# Altium footprint library mbed-HDK.PCBLIB: 59 footprints (part 3 of 4)
Each footprint in its own frame and in the unit in brackets; x right, y up, seen from the top. Pads: shape width x height; smd on the part's side, far side on the other; paste and mask are expansions set on the pad; w line width, h text height; cw(c..) or ccw(c..) is an arc to the next point about the centre after c.
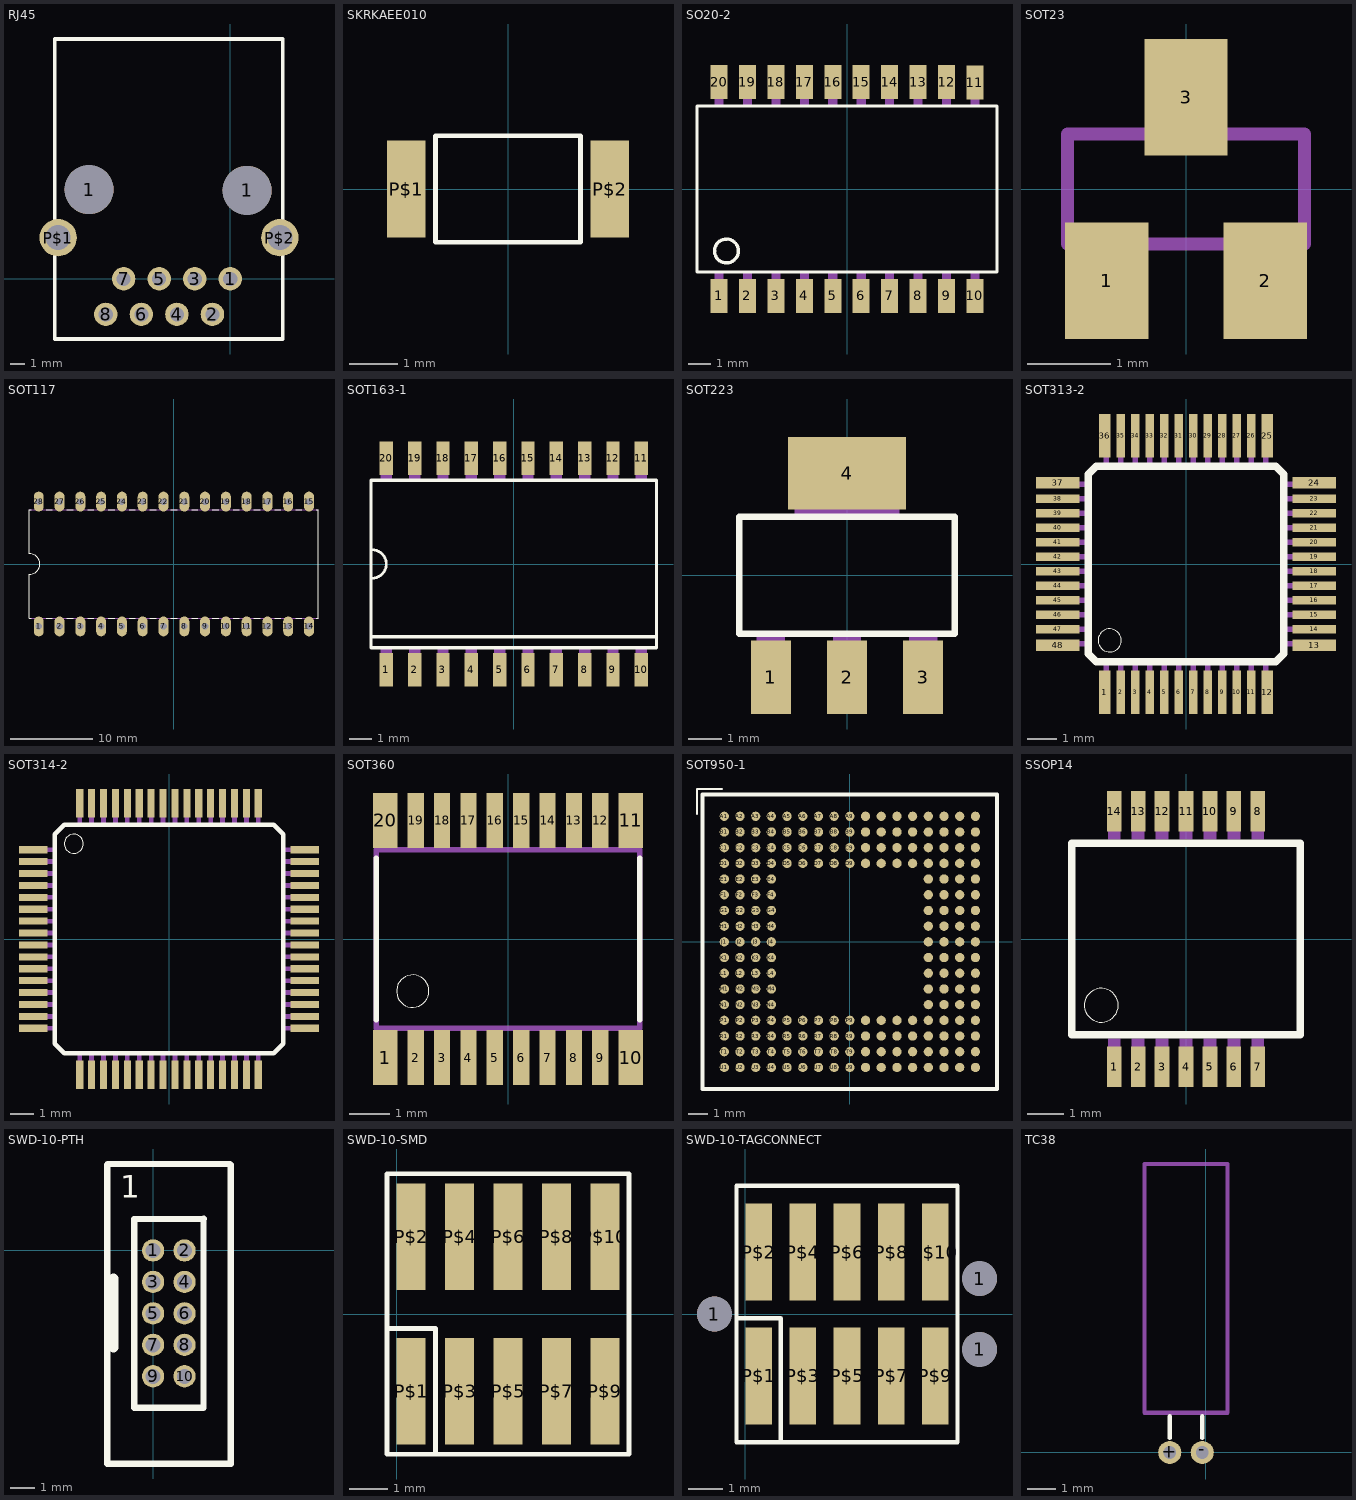
[diagram p2: the footprints below, top view; thin cyan lines are the x and y axes]

## RJ45 [mil]
pads (12):
  round 137.8 hole 137.8: 1(-397.24,251.18) 1(47.64,249.21)
  round 66 hole 40: 1(0,0) 2(-50,-100) 3(-100,0) 4(-150,-100) 5(-200,0) 6(-250,-100) 7(-300,0) 8(-350,-100)
  round 105 hole 70: P$1(-484.25,116.14) P$2(139.76,116.14)
Top Overlay:
  lines w10: -494.09,-169.29 -494.09,675.2 147.64,675.2 147.64,-169.29 -494.09,-169.29
Mechanical 16:
  rectangle: -360,-110 -340,-90
  rectangle: -310,-10 -290,10
  rectangle: -260,-110 -240,-90
  rectangle: -210,-10 -190,10
  rectangle: -160,-110 -140,-90
  rectangle: -110,-10 -90,10
  rectangle: -60,-110 -40,-90
  rectangle: -10,-10 10,10

## SKRKAEE010 [mm]
pads (2):
  rect 0.8x2 smd: P$1(-2.1,0) P$2(2.1,0)
Top Overlay:
  lines w0.1: -1.5,-1.1 -1.5,1.1 1.5,1.1 1.5,-1.1 -1.5,-1.1

## SO20-2 [mil]
pads (20):
  rect 30x60 smd: 1(-225,-188) 2(-175,-188) 3(-125,-188) 4(-75,-188) 5(-25,-188) 6(25,-188) 7(75,-188) 8(125,-188) 9(175,-188) 10(225,-188) 11(225,187) 12(175,188) 13(125,188) 14(75,188) 15(25,188) 16(-25,188) 17(-75,188) 18(-125,188) 19(-175,188) 20(-225,188)
Top Overlay:
  circle w6: c-212,-109 r21
  lines w6: -263.78,-146 -263.78,146 263.78,146 263.78,-146 -263.78,-146
Mechanical 16:
  rectangle: -233,-200 -217,-148
  rectangle: -183,-200 -167,-148
  rectangle: -133,-200 -117,-148
  rectangle: -83,-200 -67,-148
  rectangle: -33,-200 -17,-148
  rectangle: 17,-200 33,-148
  rectangle: 67,-200 83,-148
  rectangle: 117,-200 133,-148
  rectangle: 167,-200 183,-148
  rectangle: 217,-200 233,-148
  rectangle: -233,148 -217,200
  rectangle: -183,148 -167,200
  rectangle: -133,148 -117,200
  rectangle: -83,148 -67,200
  rectangle: -33,148 -17,200
  rectangle: 17,148 33,200
  rectangle: 67,148 83,200
  rectangle: 117,148 133,200
  rectangle: 167,148 183,200
  rectangle: 217,148 233,200

## SOT23 [mm]
pads (3):
  rect 1x1.4 smd: 1(-0.95,-1.1) 2(0.95,-1.1) 3(0,1.1)
Mechanical 16:
  rectangle: -1.168,-1.295 -0.711,-0.711
  rectangle: 0.711,-1.295 1.168,-0.711
  rectangle: -0.229,0.711 0.229,1.295
  lines w0.152: -1.422,-0.66 -1.422,0.66 1.422,0.66 1.422,-0.66 -1.422,-0.66

## SOT117 [mil]
pads (28):
  oval 48x96 hole 32: 1(-650,-300) 2(-550,-300) 3(-450,-300) 4(-350,-300) 5(-250,-300) 6(-150,-300) 7(-50,-300) 8(50,-300) 9(150,-300) 10(250,-300) 11(350,-300) 12(450,-300) 13(550,-300) 14(650,-300) 15(650,300) 16(550,300) 17(450,300) 18(350,300) 19(250,300) 20(150,300) 21(50,300) 22(-50,300) 23(-150,300) 24(-250,300) 25(-350,300) 26(-450,300) 27(-550,300) 28(-650,300)
Top Overlay:
  lines w6: -685,-260 -695,-260 -695,-50 ccw(c-695,0) -695,50 -695,260 -685,260 ; -615,-260 -585,-260 ; -615,260 -585,260 ; -515,-260 -485,-260 ; -515,260 -485,260 ; -415,-260 -385,-260 ; -415,260 -385,260 ; -315,-260 -285,-260 ; -315,260 -285,260 ; -215,-260 -185,-260 ; -215,260 -185,260 ; -115,-260 -85,-260 ; -115,260 -85,260 ; -15,-260 -10,-260 15,-260 ; -15,260 -10,260 15,260 ; 85,-260 90,-260 115,-260 ; 85,260 90,260 115,260 ; 185,-260 215,-260 ; 185,260 215,260 ; 285,-260 315,-260 ; 285,260 315,260 ; 385,-260 415,-260 ; 385,260 415,260 ; 485,-260 515,-260 ; 485,260 515,260 ; 585,-260 615,-260 ; 585,260 615,260 ; 685,-260 695,-260 695,260 685,260
Mechanical 16:
  lines w6: -695,-260 695,-260 ; -695,260 695,260

## SOT163-1 [mm]
pads (20):
  rect 0.6x1.5 smd: 1(-5.715,-4.75) 2(-4.445,-4.75) 3(-3.175,-4.75) 4(-1.905,-4.75) 5(-0.635,-4.75) 6(0.635,-4.75) 7(1.905,-4.75) 8(3.175,-4.75) 9(4.445,-4.75) 10(5.715,-4.75) 11(5.715,4.75) 12(4.445,4.75) 13(3.175,4.75) 14(1.905,4.75) 15(0.635,4.75) 16(-0.635,4.75) 17(-1.905,4.75) 18(-3.175,4.75) 19(-4.445,4.75) 20(-5.715,4.75)
Top Overlay:
  lines w0.127: -6.35,-0.635 ccw(c-6.35,0) -6.35,0.635
  lines w0.152: -6.4,-3.27 6.4,-3.27 ; -6.4,-3.27 -6.4,-3.75 6.4,-3.75 6.4,-3.27 ; -6.4,-3.27 -6.4,3.75 6.4,3.75 6.4,-3.27
Mechanical 16:
  rectangle: -5.969,-4.75 -5.461,-3.75
  rectangle: 5.461,-4.75 5.969,-3.75
  rectangle: -5.969,3.75 -5.461,4.75
  rectangle: 5.461,3.75 5.969,4.75
  rectangle: 4.191,-4.75 4.699,-3.75
  rectangle: 2.921,-4.75 3.429,-3.75
  rectangle: 1.651,-4.75 2.159,-3.75
  rectangle: 0.381,-4.75 0.889,-3.75
  rectangle: -4.699,-4.75 -4.191,-3.75
  rectangle: -3.429,-4.75 -2.921,-3.75
  rectangle: -2.159,-4.75 -1.651,-3.75
  rectangle: -0.889,-4.75 -0.381,-3.75
  rectangle: 4.191,3.75 4.699,4.75
  rectangle: 2.921,3.75 3.429,4.75
  rectangle: 1.651,3.75 2.159,4.75
  rectangle: 0.381,3.75 0.889,4.75
  rectangle: -4.699,3.75 -4.191,4.75
  rectangle: -3.429,3.75 -2.921,4.75
  rectangle: -2.159,3.75 -1.651,4.75
  rectangle: -0.889,3.75 -0.381,4.75

## SOT223 [mil]
pads (4):
  rect 48x88 smd: 1(-91,-122) 2(0,-122) 3(91,-122)
  rect 141.73x86.61 smd: 4(0,122.01)
Top Overlay:
  lines w8: -129,-70 -129,70 129,70 129,-70 -129,-70
Mechanical 16:
  rectangle: 74,-144 108,-71
  rectangle: -108,-144 -74,-71
  rectangle: -17,-144 17,-71
  rectangle: -63,71 63,144
  rectangle: 74,-144 108,-71
  rectangle: -108,-144 -74,-71
  rectangle: -17,-144 17,-71
  rectangle: -63,71 63,144

## SOT313-2 [mm]
pads (48):
  rect 0.4x1.5 smd: 1(-2.81,-4.425) 12(2.81,-4.425) 25(2.81,4.425) 36(-2.81,4.425)
  rect 0.28x1.5 smd: 2(-2.25,-4.425) 3(-1.75,-4.425) 4(-1.25,-4.425) 5(-0.75,-4.425) 6(-0.25,-4.425) 7(0.25,-4.425) 8(0.75,-4.425) 9(1.25,-4.425) 10(1.75,-4.425) 11(2.25,-4.425) 26(2.25,4.425) 27(1.75,4.425) 28(1.25,4.425) 29(0.75,4.425) 30(0.25,4.425) 31(-0.25,4.425) 32(-0.75,4.425) 33(-1.25,4.425) 34(-1.75,4.425) 35(-2.25,4.425)
  rect 1.5x0.4 smd: 13(4.425,-2.81) 24(4.425,2.81) 37(-4.425,2.81) 48(-4.425,-2.81)
  rect 1.5x0.28 smd: 14(4.425,-2.25) 15(4.425,-1.75) 16(4.425,-1.25) 17(4.425,-0.75) 18(4.425,-0.25) 19(4.425,0.25) 20(4.425,0.75) 21(4.425,1.25) 22(4.425,1.75) 23(4.425,2.25) 38(-4.425,2.25) 39(-4.425,1.75) 40(-4.425,1.25) 41(-4.425,0.75) 42(-4.425,0.25) 43(-4.425,-0.25) 44(-4.425,-0.75) 45(-4.425,-1.25) 46(-4.425,-1.75) 47(-4.425,-2.25)
Top Overlay:
  circle w0: c-2.635,-2.635 r0.4
  lines w0.254: -3.375,-3.1 -3.375,3.1 -3.1,3.375 3.1,3.375 3.375,3.1 3.375,-3.1 3.1,-3.375 -3.1,-3.375 -3.375,-3.1
Mechanical 16:
  rectangle: -4.5,-2.85 -3.45,-2.65
  rectangle: -4.5,-2.35 -3.45,-2.15
  rectangle: -4.5,-1.85 -3.45,-1.65
  rectangle: -4.5,-1.35 -3.45,-1.15
  rectangle: -4.5,-0.85 -3.45,-0.65
  rectangle: -4.5,-0.35 -3.45,-0.15
  rectangle: -4.5,0.15 -3.45,0.35
  rectangle: -4.5,0.65 -3.45,0.85
  rectangle: -4.5,1.15 -3.45,1.35
  rectangle: -4.5,1.65 -3.45,1.85
  rectangle: -4.5,2.15 -3.45,2.35
  rectangle: -4.5,2.65 -3.45,2.85
  rectangle: -2.85,3.45 -2.65,4.5
  rectangle: -2.35,3.45 -2.15,4.5
  rectangle: -1.85,3.45 -1.65,4.5
  rectangle: -1.35,3.45 -1.15,4.5
  rectangle: -0.85,3.45 -0.65,4.5
  rectangle: -0.35,3.45 -0.15,4.5
  rectangle: 0.15,3.45 0.35,4.5
  rectangle: 0.65,3.45 0.85,4.5
  rectangle: 1.15,3.45 1.35,4.5
  rectangle: 1.65,3.45 1.85,4.5
  rectangle: 2.15,3.45 2.35,4.5
  rectangle: 2.65,3.45 2.85,4.5
  rectangle: 3.45,2.65 4.5,2.85
  rectangle: 3.45,2.15 4.5,2.35
  rectangle: 3.45,1.65 4.5,1.85
  rectangle: 3.45,1.15 4.5,1.35
  rectangle: 3.45,0.65 4.5,0.85
  rectangle: 3.45,0.15 4.5,0.35
  rectangle: 3.45,-0.35 4.5,-0.15
  rectangle: 3.45,-0.85 4.5,-0.65
  rectangle: 3.45,-1.35 4.5,-1.15
  rectangle: 3.45,-1.85 4.5,-1.65
  rectangle: 3.45,-2.35 4.5,-2.15
  rectangle: 3.45,-2.85 4.5,-2.65
  rectangle: 2.65,-4.5 2.85,-3.45
  rectangle: 2.15,-4.5 2.35,-3.45
  rectangle: 1.65,-4.5 1.85,-3.45
  rectangle: 1.15,-4.5 1.35,-3.45
  rectangle: 0.65,-4.5 0.85,-3.45
  rectangle: 0.15,-4.5 0.35,-3.45
  rectangle: -0.35,-4.5 -0.15,-3.45
  rectangle: -0.85,-4.5 -0.65,-3.45
  rectangle: -1.35,-4.5 -1.15,-3.45
  rectangle: -1.85,-4.5 -1.65,-3.45
  rectangle: -2.35,-4.5 -2.15,-3.45
  rectangle: -2.85,-4.5 -2.65,-3.45

## SOT314-2 [mm]
pads (64):
  rect 1.2x0.3 smd: 1(-5.7,3.75) 2(-5.7,3.25) 3(-5.7,2.75) 4(-5.7,2.25) 5(-5.7,1.75) 6(-5.7,1.25) 7(-5.7,0.75) 8(-5.7,0.25) 9(-5.7,-0.25) 10(-5.7,-0.75) 11(-5.7,-1.25) 12(-5.7,-1.75) 13(-5.7,-2.25) 14(-5.7,-2.75) 15(-5.7,-3.25) 16(-5.7,-3.75) 33(5.7,-3.75) 34(5.7,-3.25) 35(5.7,-2.75) 36(5.7,-2.25) 37(5.7,-1.75) 38(5.7,-1.25) 39(5.7,-0.75) 40(5.7,-0.25) 41(5.7,0.25) 42(5.7,0.75) 43(5.7,1.25) 44(5.7,1.75) 45(5.7,2.25) 46(5.7,2.75) 47(5.7,3.25) 48(5.7,3.75)
  rect 0.3x1.2 smd: 17(-3.75,-5.7) 18(-3.25,-5.7) 19(-2.75,-5.7) 20(-2.25,-5.7) 21(-1.75,-5.7) 22(-1.25,-5.7) 23(-0.75,-5.7) 24(-0.25,-5.7) 25(0.25,-5.7) 26(0.75,-5.7) 27(1.25,-5.7) 28(1.75,-5.7) 29(2.25,-5.7) 30(2.75,-5.7) 31(3.25,-5.7) 32(3.75,-5.7) 49(3.75,5.7) 50(3.25,5.7) 51(2.75,5.7) 52(2.25,5.7) 53(1.75,5.7) 54(1.25,5.7) 55(0.75,5.7) 56(0.25,5.7) 57(-0.25,5.7) 58(-0.75,5.7) 59(-1.25,5.7) 60(-1.75,5.7) 61(-2.25,5.7) 62(-2.75,5.7) 63(-3.25,5.7) 64(-3.75,5.7)
Top Overlay:
  circle w0: c-4,4 r0.4
  lines w0.203: -4.8,-4.4 -4.8,4.4 -4.4,4.8 4.4,4.8 4.8,4.4 4.8,-4.4 4.4,-4.8 -4.4,-4.8 -4.8,-4.4
Mechanical 16:
  rectangle: -3.85,4.8 -3.65,6
  rectangle: -3.35,4.8 -3.15,6
  rectangle: -2.85,4.8 -2.65,6
  rectangle: -2.35,4.8 -2.15,6
  rectangle: -1.85,4.8 -1.65,6
  rectangle: -1.35,4.8 -1.15,6
  rectangle: -0.85,4.8 -0.65,6
  rectangle: -0.35,4.8 -0.15,6
  rectangle: 0.15,4.8 0.35,6
  rectangle: 0.65,4.8 0.85,6
  rectangle: 1.15,4.8 1.35,6
  rectangle: 1.65,4.8 1.85,6
  rectangle: 2.15,4.8 2.35,6
  rectangle: 2.65,4.8 2.85,6
  rectangle: 3.15,4.8 3.35,6
  rectangle: 3.65,4.8 3.85,6
  rectangle: 4.8,3.65 6,3.85
  rectangle: 4.8,3.15 6,3.35
  rectangle: 4.8,2.65 6,2.85
  rectangle: 4.8,2.15 6,2.35
  rectangle: 4.8,1.65 6,1.85
  rectangle: 4.8,1.15 6,1.35
  rectangle: 4.8,0.65 6,0.85
  rectangle: 4.8,0.15 6,0.35
  rectangle: 4.8,-0.35 6,-0.15
  rectangle: 4.8,-0.85 6,-0.65
  rectangle: 4.8,-1.35 6,-1.15
  rectangle: 4.8,-1.85 6,-1.65
  rectangle: 4.8,-2.35 6,-2.15
  rectangle: 4.8,-2.85 6,-2.65
  rectangle: 4.8,-3.35 6,-3.15
  rectangle: 4.8,-3.85 6,-3.65
  rectangle: 3.65,-6 3.85,-4.8
  rectangle: 3.15,-6 3.35,-4.8
  rectangle: 2.65,-6 2.85,-4.8
  rectangle: 2.15,-6 2.35,-4.8
  rectangle: 1.65,-6 1.85,-4.8
  rectangle: 1.15,-6 1.35,-4.8
  rectangle: 0.65,-6 0.85,-4.8
  rectangle: 0.15,-6 0.35,-4.8
  rectangle: -0.35,-6 -0.15,-4.8
  rectangle: -0.85,-6 -0.65,-4.8
  rectangle: -1.35,-6 -1.15,-4.8
  rectangle: -1.85,-6 -1.65,-4.8
  rectangle: -2.35,-6 -2.15,-4.8
  rectangle: -2.85,-6 -2.65,-4.8
  rectangle: -3.35,-6 -3.15,-4.8
  rectangle: -3.85,-6 -3.65,-4.8
  rectangle: -6,-3.85 -4.8,-3.65
  rectangle: -6,-3.35 -4.8,-3.15
  rectangle: -6,-2.85 -4.8,-2.65
  rectangle: -6,-2.35 -4.8,-2.15
  rectangle: -6,-1.85 -4.8,-1.65
  rectangle: -6,-1.35 -4.8,-1.15
  rectangle: -6,-0.85 -4.8,-0.65
  rectangle: -6,-0.35 -4.8,-0.15
  rectangle: -6,0.15 -4.8,0.35
  rectangle: -6,0.65 -4.8,0.85
  rectangle: -6,1.15 -4.8,1.35
  rectangle: -6,1.65 -4.8,1.85
  rectangle: -6,2.15 -4.8,2.35
  rectangle: -6,2.65 -4.8,2.85
  rectangle: -6,3.15 -4.8,3.35
  rectangle: -6,3.65 -4.8,3.85

## SOT360 [mm]
pads (20):
  rect 0.6x1.35 smd: 1(-3.025,-2.925) 10(3.025,-2.925) 11(3.025,2.925) 20(-3.025,2.925)
  rect 0.4x1.35 smd: 2(-2.275,-2.925) 3(-1.625,-2.925) 4(-0.975,-2.925) 5(-0.325,-2.925) 6(0.325,-2.925) 7(0.975,-2.925) 8(1.625,-2.925) 9(2.275,-2.925) 12(2.275,2.925) 13(1.625,2.925) 14(0.975,2.925) 15(0.325,2.925) 16(-0.325,2.925) 17(-0.975,2.925) 18(-1.625,2.925) 19(-2.275,2.925)
Top Overlay:
  circle w0: c-2.35,-1.285 r0.4
  lines w0.127: -3.25,-2 -3.25,2 ; 3.25,-2 3.25,2
Mechanical 16:
  rectangle: 2.8,-3.2 3.05,-2.2
  rectangle: 2.15,-3.2 2.4,-2.2
  rectangle: 1.5,-3.2 1.75,-2.2
  rectangle: 0.85,-3.2 1.1,-2.2
  rectangle: 0.2,-3.2 0.45,-2.2
  rectangle: -0.45,-3.2 -0.2,-2.2
  rectangle: -1.1,-3.2 -0.85,-2.2
  rectangle: -1.75,-3.2 -1.5,-2.2
  rectangle: -2.4,-3.2 -2.15,-2.2
  rectangle: -3.05,-3.2 -2.8,-2.2
  rectangle: 2.8,2.2 3.05,3.2
  rectangle: 2.15,2.2 2.4,3.2
  rectangle: 1.5,2.2 1.75,3.2
  rectangle: 0.85,2.2 1.1,3.2
  rectangle: -3.05,2.2 -2.8,3.2
  rectangle: -2.4,2.2 -2.15,3.2
  rectangle: -1.75,2.2 -1.5,3.2
  rectangle: -1.1,2.2 -0.85,3.2
  rectangle: -0.45,2.2 -0.2,3.2
  rectangle: 0.2,2.2 0.45,3.2
  lines w0.127: -3.25,-2.2 -3.25,2.2 3.25,2.2 3.25,-2.2 -3.25,-2.2

## SOT950-1 [mm]
pads (208):
  rrect100% 0.475x0.475 smd: A1(-6.4,6.4) A2(-5.6,6.4) A3(-4.8,6.4) A4(-4,6.4) A5(-3.2,6.4) A6(-2.4,6.4) A7(-1.6,6.4) A8(-0.8,6.4) A9(0,6.4) A10(0.8,6.4) A11(1.6,6.4) A12(2.4,6.4) A13(3.2,6.4) A14(4,6.4) A15(4.8,6.4) A16(5.6,6.4) A17(6.4,6.4) B1(-6.4,5.6) B2(-5.6,5.6) B3(-4.8,5.6) B4(-4,5.6) B5(-3.2,5.6) B6(-2.4,5.6) B7(-1.6,5.6) B8(-0.8,5.6) B9(0,5.6) B10(0.8,5.6) B11(1.6,5.6) B12(2.4,5.6) B13(3.2,5.6) B14(4,5.6) B15(4.8,5.6) B16(5.6,5.6) B17(6.4,5.6) C1(-6.4,4.8) C2(-5.6,4.8) C3(-4.8,4.8) C4(-4,4.8) C5(-3.2,4.8) C6(-2.4,4.8) C7(-1.6,4.8) C8(-0.8,4.8) C9(0,4.8) C10(0.8,4.8) C11(1.6,4.8) C12(2.4,4.8) C13(3.2,4.8) C14(4,4.8) C15(4.8,4.8) C16(5.6,4.8) C17(6.4,4.8) D1(-6.4,4) D2(-5.6,4) D3(-4.8,4) D4(-4,4) D5(-3.2,4) D6(-2.4,4) D7(-1.6,4) D8(-0.8,4) D9(0,4) D10(0.8,4) D11(1.6,4) D12(2.4,4) D13(3.2,4) D14(4,4) D15(4.8,4) D16(5.6,4) D17(6.4,4) E1(-6.4,3.2) E2(-5.6,3.2) E3(-4.8,3.2) E4(-4,3.2) E14(4,3.2) E15(4.8,3.2) E16(5.6,3.2) E17(6.4,3.2) F1(-6.4,2.4) F2(-5.6,2.4) F3(-4.8,2.4) F4(-4,2.4) F14(4,2.4) F15(4.8,2.4) F16(5.6,2.4) F17(6.4,2.4) G1(-6.4,1.6) G2(-5.6,1.6) G3(-4.8,1.6) G4(-4,1.6) G14(4,1.6) G15(4.8,1.6) G16(5.6,1.6) G17(6.4,1.6) H1(-6.4,0.8) H2(-5.6,0.8) H3(-4.8,0.8) H4(-4,0.8) H14(4,0.8) H15(4.8,0.8) H16(5.6,0.8) H17(6.4,0.8) J1(-6.4,0) J2(-5.6,0) J3(-4.8,0) J4(-4,0) J14(4,0) J15(4.8,0) J16(5.6,0) J17(6.4,0) K1(-6.4,-0.8) K2(-5.6,-0.8) K3(-4.8,-0.8) K4(-4,-0.8) K14(4,-0.8) K15(4.8,-0.8) K16(5.6,-0.8) K17(6.4,-0.8) L1(-6.4,-1.6) L2(-5.6,-1.6) L3(-4.8,-1.6) L4(-4,-1.6) L14(4,-1.6) L15(4.8,-1.6) L16(5.6,-1.6) L17(6.4,-1.6) M1(-6.4,-2.4) M2(-5.6,-2.4) M3(-4.8,-2.4) M4(-4,-2.4) M14(4,-2.4) M15(4.8,-2.4) M16(5.6,-2.4) M17(6.4,-2.4) N1(-6.4,-3.2) N2(-5.6,-3.2) N3(-4.8,-3.2) N4(-4,-3.2) N14(4,-3.2) N15(4.8,-3.2) N16(5.6,-3.2) N17(6.4,-3.2) P1(-6.4,-4) P2(-5.6,-4) P3(-4.8,-4) P4(-4,-4) P5(-3.2,-4) P6(-2.4,-4) P7(-1.6,-4) P8(-0.8,-4) P9(0,-4) P10(0.8,-4) P11(1.6,-4) P12(2.4,-4) P13(3.2,-4) P14(4,-4) P15(4.8,-4) P16(5.6,-4) P17(6.4,-4) R1(-6.4,-4.8) R2(-5.6,-4.8) R3(-4.8,-4.8) R4(-4,-4.8) R5(-3.2,-4.8) R6(-2.4,-4.8) R7(-1.6,-4.8) R8(-0.8,-4.8) R9(0,-4.8) R10(0.8,-4.8) R11(1.6,-4.8) R12(2.4,-4.8) R13(3.2,-4.8) R14(4,-4.8) R15(4.8,-4.8) R16(5.6,-4.8) R17(6.4,-4.8) T1(-6.4,-5.6) T2(-5.6,-5.6) T3(-4.8,-5.6) T4(-4,-5.6) T5(-3.2,-5.6) T6(-2.4,-5.6) T7(-1.6,-5.6) T8(-0.8,-5.6) T9(0,-5.6) T10(0.8,-5.6) T11(1.6,-5.6) T12(2.4,-5.6) T13(3.2,-5.6) T14(4,-5.6) T15(4.8,-5.6) T16(5.6,-5.6) T17(6.4,-5.6) U1(-6.4,-6.4) U2(-5.6,-6.4) U3(-4.8,-6.4) U4(-4,-6.4) U5(-3.2,-6.4) U6(-2.4,-6.4) U7(-1.6,-6.4) U8(-0.8,-6.4) U9(0,-6.4) U10(0.8,-6.4) U11(1.6,-6.4) U12(2.4,-6.4) U13(3.2,-6.4) U14(4,-6.4) U15(4.8,-6.4) U16(5.6,-6.4) U17(6.4,-6.4)
Top Overlay:
  lines w0.127: -7.79,6.54 -7.79,7.79 -6.54,7.79
  lines w0.203: -7.5,-7.5 7.5,-7.5 7.5,7.5 -7.5,7.5 -7.5,-7.5
Top Paste:
  drawing of 208 lines, arcs and shapes, not listed
Top Solder:
  drawing of 208 lines, arcs and shapes, not listed

## SSOP14 [mm]
pads (14):
  rect 0.4x1.1 smd: 1(-1.95,-3.475) 2(-1.3,-3.475) 3(-0.65,-3.475) 4(0,-3.475) 5(0.65,-3.475) 6(1.3,-3.475) 7(1.95,-3.475) 8(1.95,3.475) 9(1.3,3.475) 10(0.65,3.475) 11(0,3.475) 12(-0.65,3.475) 13(-1.3,3.475) 14(-1.95,3.475)
Top Overlay:
  circle w0: c-2.3,-1.8 r0.459
  lines w0.203: -3.1,-2.6 3.1,-2.6 3.1,2.6 -3.1,2.6 -3.1,-2.6
Top Solder:
  rectangle: -2.2,-4.075 -1.7,-2.875
  rectangle: -1.55,-4.075 -1.05,-2.875
  rectangle: -0.9,-4.075 -0.4,-2.875
  rectangle: -0.25,-4.075 0.25,-2.875
  rectangle: 0.4,-4.075 0.9,-2.875
  rectangle: 1.05,-4.075 1.55,-2.875
  rectangle: 1.7,-4.075 2.2,-2.875
  region: 2.2,4.075 1.7,4.075 1.7,2.875 2.2,2.875
  region: 1.55,4.075 1.05,4.075 1.05,2.875 1.55,2.875
  region: 0.9,4.075 0.4,4.075 0.4,2.875 0.9,2.875
  region: 0.25,4.075 -0.25,4.075 -0.25,2.875 0.25,2.875
  region: -0.4,4.075 -0.9,4.075 -0.9,2.875 -0.4,2.875
  region: -1.05,4.075 -1.55,4.075 -1.55,2.875 -1.05,2.875
  region: -1.7,4.075 -2.2,4.075 -2.2,2.875 -1.7,2.875
Mechanical 16:
  rectangle: -2.125,-3.95 -1.775,-2.7
  rectangle: -1.475,-3.95 -1.125,-2.7
  rectangle: -0.825,-3.95 -0.475,-2.7
  rectangle: -0.175,-3.95 0.175,-2.7
  rectangle: 0.475,-3.95 0.825,-2.7
  rectangle: 1.125,-3.95 1.475,-2.7
  rectangle: 1.775,-3.95 2.125,-2.7
  region: 2.125,3.95 1.775,3.95 1.775,2.7 2.125,2.7
  region: 1.475,3.95 1.125,3.95 1.125,2.7 1.475,2.7
  region: 0.825,3.95 0.475,3.95 0.475,2.7 0.825,2.7
  region: 0.175,3.95 -0.175,3.95 -0.175,2.7 0.175,2.7
  region: -0.475,3.95 -0.825,3.95 -0.825,2.7 -0.475,2.7
  region: -1.125,3.95 -1.475,3.95 -1.475,2.7 -1.125,2.7
  region: -1.775,3.95 -2.125,3.95 -2.125,2.7 -1.775,2.7

## SWD-10-PTH [mil]
pads (10):
  round 35.43 hole 24: 1(0,0) 2(50,0) 3(0,-50) 4(50,-50) 5(0,-100) 6(50,-100) 7(0,-150) 8(50,-150) 9(0,-200) 10(50,-200)
Top Overlay:
  lines w10: -72.91,-338.98 -72.91,136.22 ; -72.52,-338.98 121.73,-338.98 ; -72.52,137.4 121.73,137.4 ; 80.63,50.39 -29.84,50 ; 123.54,-339.37 123.54,136.22 ; -29.84,50 -30,50 -30,-250 80,-250 80,50 -29.84,50
  lines w16: -62.6,-154.41 -62.6,-44.41
  text "1" at -51.85,71.57 h62
Mechanical 16:
  rectangle: -10,-10 10,10
  rectangle: -10,-60 10,-40
  rectangle: 40,-10 60,10
  rectangle: 40,-60 60,-40
  rectangle: -10,-110 10,-90
  rectangle: 40,-110 60,-90
  rectangle: -10,-160 10,-140
  rectangle: 40,-160 60,-140
  rectangle: -10,-210 10,-190
  rectangle: 40,-210 60,-190

## SWD-10-SMD [mil]
pads (10):
  rect 30x110 smd: P$1(15,-80) P$2(15,80) P$3(65,-80) P$4(65,80) P$5(115,-80) P$6(115,80) P$7(165,-80) P$8(165,80) P$9(215,-80) P$10(215,80)
Top Overlay:
  lines w5: -10,-15 -10,145 240,145 240,-145 40,-145 ; -10,-15 -10,-145 40,-145 ; -10,-15 40,-15 40,-145

## SWD-10-TAGCONNECT [mil]
pads (13):
  round 39.37 hole 39.37: 1(-35,0) 1(265,-40) 1(265,40)
  rect 30x110 smd: P$1(15,-70) P$2(15,70) P$3(65,-70) P$4(65,70) P$5(115,-70) P$6(115,70) P$7(165,-70) P$8(165,70) P$9(215,-70) P$10(215,70)
Top Overlay:
  lines w5: -10,-5 -10,145 240,145 240,-145 40,-145 ; -10,-5 -10,-145 40,-145 ; -10,-5 40,-5 40,-145

## TC38 [mil]
pads (2):
  round 32 hole 17.72: +(-50,0) -(-5,0)
Top Overlay:
  lines w6: -50,20 -50,50 ; -5,20 -5,50
Mechanical 16:
  lines w6: -85,55 -85,400 30,400 30,55 -85,55